# Altium footprint library Sensors.PcbLib: 3 footprints
Each footprint in its own frame and in the unit in brackets; x right, y up, seen from the top. Pads: shape width x height; smd on the part's side, far side on the other; paste and mask are expansions set on the pad; w line width, h text height; cw(c..) or ccw(c..) is an arc to the next point about the centre after c.
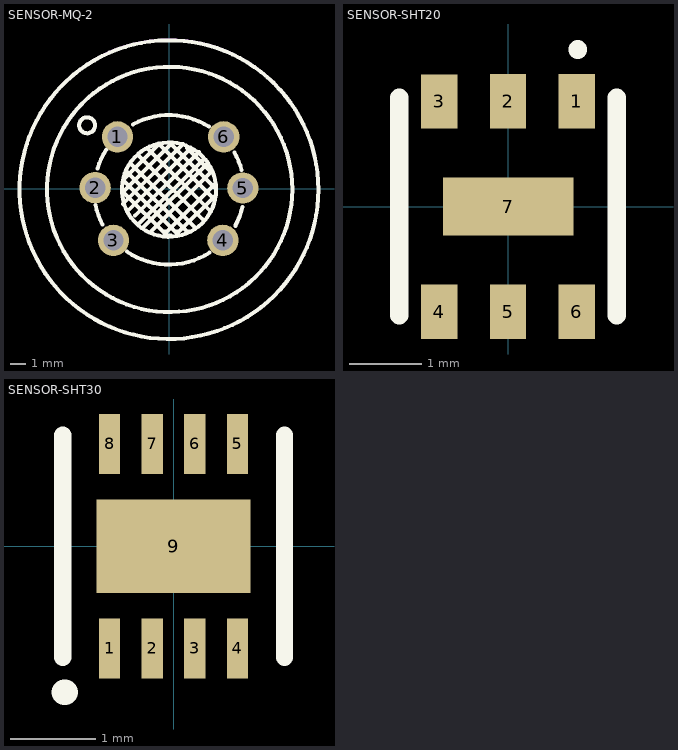
[diagram p0: the footprints below, top view; thin cyan lines are the x and y axes]

## SENSOR-MQ-2 [mm] "MQ-2"
pads (6):
  round 2 hole 1.3 mask+0.051: 1(-3.277,3.289) 2(-4.699,0.064) 3(-3.531,-3.289) 4(3.429,-3.289) 5(4.699,0.038) 6(3.48,3.289)
Top Overlay:
  circle w0.254: c0,-0.064 r9.5
  circle w0.254: c0.041,-0.053 r7.8
  circle w0.254: c-5.207,4.026 r0.508
  circle w0.254: c0,-0.064 r3
  lines w0.254: -4.674,-1.041 ccw(c0,-0.063) -4.235,-2.269 ; -4.544,1.267 cw(c0,-0.064) -3.988,2.489 ; -2.911,-0.963 0.899,2.847 ; -2.667,-4.013 ccw(c0,-0.064) 2.574,-4.074 ; -2.657,-1.471 1.407,2.593 ; -2.657,1.069 1.153,-2.741 1.407,-2.741 ; -2.403,1.577 1.661,-2.487 ; -2.276,4.093 cw(c0,-0.063) 2.54,3.937 ; -2.149,-1.725 1.915,2.339 ; -1.895,-2.233 2.169,1.831 ; -1.895,2.085 2.169,-1.979 ; -1.641,-2.487 2.423,1.577 ; -1.387,2.593 2.677,-1.471 ; -1.133,-2.741 2.677,1.069 1.153,2.593 ; -0.371,-2.741 -0.117,-2.741 2.931,0.307 ; 0.137,-2.995 -0.117,-2.995 -2.911,-0.201 0.137,2.847 2.931,0.053 ; 0.391,-2.741 0.645,-2.741 2.931,-0.455 ; 0.645,-2.995 -2.911,0.561 -0.625,2.847 2.931,-0.709 ; 4.161,2.297 cw(c0,-0.063) 4.623,1.168 ; 4.216,-2.362 ccw(c0,-0.063) 4.673,-1.17
Mechanical 15:
  region: 3.98,3.289 3.98,3.389 3.904,3.572 3.763,3.713 3.579,3.789 3.38,3.789 3.197,3.713 3.056,3.572 2.98,3.389 2.98,3.289 2.98,3.19 3.056,3.006 3.197,2.865 3.38,2.789 3.579,2.789 3.763,2.865 3.904,3.006 3.98,3.19
  region: 5.199,0.038 5.199,0.138 5.123,0.321 4.982,0.462 4.798,0.538 4.6,0.538 4.416,0.462 4.275,0.321 4.199,0.138 4.199,0.038 4.199,-0.061 4.275,-0.245 4.416,-0.386 4.6,-0.462 4.798,-0.462 4.982,-0.386 5.123,-0.245 5.199,-0.061
  region: 3.929,-3.289 3.929,-3.19 3.853,-3.006 3.712,-2.865 3.528,-2.789 3.33,-2.789 3.146,-2.865 3.005,-3.006 2.929,-3.19 2.929,-3.289 2.929,-3.389 3.005,-3.572 3.146,-3.713 3.33,-3.789 3.528,-3.789 3.712,-3.713 3.853,-3.572 3.929,-3.389
  region: -3.031,-3.289 -3.031,-3.19 -3.107,-3.006 -3.247,-2.865 -3.431,-2.789 -3.63,-2.789 -3.814,-2.865 -3.954,-3.006 -4.031,-3.19 -4.031,-3.289 -4.031,-3.389 -3.954,-3.572 -3.814,-3.713 -3.63,-3.789 -3.431,-3.789 -3.247,-3.713 -3.107,-3.572 -3.031,-3.389
  region: -4.199,0.064 -4.199,0.163 -4.275,0.347 -4.416,0.487 -4.6,0.563 -4.798,0.563 -4.982,0.487 -5.123,0.347 -5.199,0.163 -5.199,0.064 -5.199,-0.036 -5.123,-0.22 -4.982,-0.36 -4.798,-0.436 -4.6,-0.436 -4.416,-0.36 -4.275,-0.22 -4.199,-0.036
  region: -2.777,3.289 -2.777,3.389 -2.853,3.572 -2.993,3.713 -3.177,3.789 -3.376,3.789 -3.56,3.713 -3.7,3.572 -3.777,3.389 -3.777,3.289 -3.777,3.19 -3.7,3.006 -3.56,2.865 -3.376,2.789 -3.177,2.789 -2.993,2.865 -2.853,3.006 -2.777,3.19
  lines w0.051: -9.5,0 cw(c0,0.016) 9.5,0 cw(c0,-0.016) -9.5,0
3D body "User Library-MQ-5.step": height 16.06, standoff -7, extent -9.5,-9.563 9.5,9.437

## SENSOR-SHT20 [mm] "DFN-6_L3.0-W3.0-P0.95-TR-EP"
pads (7):
  rect 0.5x0.75 smd mask+0.051: 1(0.95,1.452) 2(0,1.451) 3(-0.95,1.45) 4(-0.95,-1.451) 5(0,-1.452) 6(0.95,-1.451)
  rect 1.8x0.8 smd mask+0.051: 7(0.004,-0.001)
Top Overlay:
  lines w0.254: -1.5,-1.5 -1.5,1.5 ; 0.96,2.16 ccw(c0.819,2.171) 0.96,2.171 ; 1.5,-1.5 1.5,1.5
3D body "SHT20.STEP": height 1.1, standoff -0.01, extent -1.496,-1.511 1.504,1.509

## SENSOR-SHT30 [mil] "DFN-8"
pads (9):
  rect 9.8x27.6 smd mask+2: 1(-29.5,-47.2) 2(-9.8,-47.2) 3(9.8,-47.2) 4(29.5,-47.2) 5(29.5,47.2) 6(9.8,47.2) 7(-9.8,47.2) 8(-29.5,47.2)
  rect 70.9x43.3 smd mask+2: 9(0,0)
Top Overlay:
  lines w8: -51.2,-51.2 -51.2,51.2 ; 51.2,-51.2 51.2,51.2
  lines w11.8: -50.34,-67.44 cw(c-50.39,-72.44) -49.94,-67.46
3D body "User Library-sht3x-1.step": height 35.43, standoff 0, extent -49.98,-49.21 48.44,49.21